# Altium footprint library 贴片电容.PcbLib: 22 footprints (part 2 of 2)
Each footprint in its own frame and in the unit in brackets; x right, y up, seen from the top. Pads: shape width x height; smd on the part's side, far side on the other; paste and mask are expansions set on the pad; w line width, h text height; cw(c..) or ccw(c..) is an arc to the next point about the centre after c.
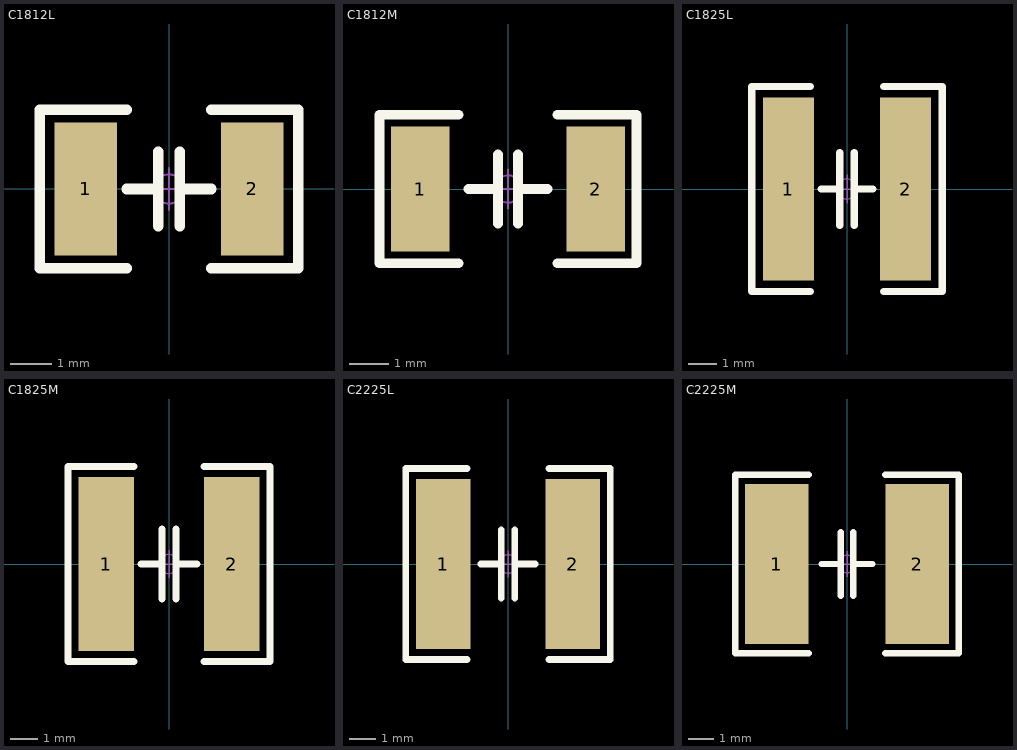
[diagram p1: the footprints below, top view; thin cyan lines are the x and y axes]

## C1812L [mm] "无极性贴片电容"
pads (2):
  rect 1.5x3.2 smd: 1(-2,0) 2(2,0)
Top Overlay:
  lines w0.254: -1.016,-1.905 -3.1,-1.905 -3.1,1.905 -1.016,1.905 ; -1.016,0 -0.254,0 ; -0.254,-0.889 -0.254,0.889 ; 0.254,-0.889 0.254,0.889 ; 0.254,0 1.016,0 ; 1.016,-1.905 3.1,-1.905 3.1,1.905 1.016,1.905
Mechanical 15:
  circle w0.05: c0,0 r0.35
  lines w0.05: -0.5,0 0.5,0 ; 0,-0.5 0,0.5
3D body "C 1812.STEP": height 2.01, standoff -0.01, extent -2.3,-1.61 2.3,1.61

## C1812M [mm] "无极性贴片电容"
pads (2):
  rect 1.5x3.2 smd: 1(-2.25,0) 2(2.25,0)
Top Overlay:
  lines w0.254: -1.27,-1.905 -3.302,-1.905 -3.302,1.905 -1.27,1.905 ; -1.016,0 -0.254,0 ; -0.254,-0.889 -0.254,0.889 ; 0.254,-0.889 0.254,0.889 ; 0.254,0 1.016,0 ; 1.27,-1.905 3.302,-1.905 3.302,-0.508 3.302,1.905 1.27,1.905
Mechanical 15:
  circle w0.05: c0,0 r0.35
  lines w0.05: -0.5,0 0.5,0 ; 0,-0.5 0,0.5
3D body "C 1812.STEP": height 2.01, standoff -0.01, extent -2.3,-1.61 2.3,1.61

## C1825L [mil] "无极性贴片电容"
pads (2):
  rect 70x250 smd: 1(-80,0) 2(80,0)
Top Overlay:
  lines w10: -50,-140 -130,-140 -130,140 -50,140 ; -35,0 -10,0 ; -10,-50 -10,50 ; 10,-50 10,50 ; 10,0 35,0 ; 50,-140 130,-140 130,140 50,140
Mechanical 15:
  circle w1.97: c0,0 r13.78
  lines w1.97: -19.68,0 19.68,0 ; 0,-19.68 0,19.68
3D body "C 1825.STEP": height 63.39, standoff -0.39, extent -88.58,-125.4 88.58,125.4

## C1825M [mil] "无极性贴片电容"
pads (2):
  rect 80x250 smd: 1(-90,0) 2(90,0)
Top Overlay:
  lines w10: -50,-140 -145,-140 -145,140 -50,140 ; -40,0 -10,0 ; -10,-50 -10,50 ; 10,-50 10,50 ; 10,0 40,0 ; 50,-140 145,-140 145,140 50,140
Mechanical 15:
  circle w1.97: c0,0 r13.78
  lines w1.97: -19.68,0 19.68,0 ; 0,-19.68 0,19.68
3D body "C 1825.STEP": height 63.39, standoff -0.39, extent -88.58,-125.4 88.58,125.4

## C2225L [mil] "无极性贴片电容"
pads (2):
  rect 80x250 smd: 1(-95,0) 2(95,0)
Top Overlay:
  lines w10: -60,-140 -150,-140 -150,140 -60,140 ; -40,0 -10,0 ; -10,-50 -10,50 ; 10,-50 10,50 ; 10,0 40,0 ; 60,-140 150,-140 150,140 60,140
Mechanical 15:
  circle w1.97: c0,0 r13.78
  lines w1.97: -19.68,0 19.68,0 ; 0,-19.68 0,19.68
3D body "C 2225.STEP": height 63.39, standoff -0.39, extent -110.24,-125.4 110.24,125.4

## C2225M [mil] "无极性贴片电容"
pads (2):
  rect 100x250 smd: 1(-110,0) 2(110,0)
Top Overlay:
  lines w10: -60,-140 -175,-140 -175,140 -60,140 ; -40,0 -10,0 ; -10,-50 -10,50 ; 10,-50 10,50 ; 10,0 40,0 ; 60,-140 175,-140 175,140 60,140
Mechanical 15:
  circle w1.97: c0,0 r13.78
  lines w1.97: -19.68,0 19.68,0 ; 0,-19.68 0,19.68
3D body "C 2225.STEP": height 63.39, standoff -0.39, extent -110.24,-125.4 110.24,125.4